# EAGLE library part HE721CXX30 (library HE721CXX30)
Reed Relay, HE700 series with SPDT-CO, internal freewheeling diode and electrostatic shield. This particular relay is in SPDT-CO configuration. See data sheet for more variants. You can simply adjust this library in case you need a different configuration.
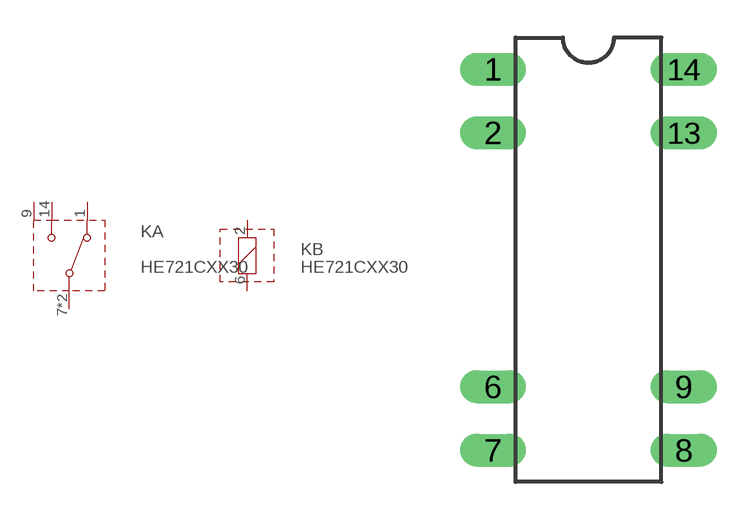
[diagram p0: symbol with the pads of DIL14; footprint DIL14]

Designator prefix K; gates A=CONTACT B=RELAIS

## HE721CXX30 (MFG: Littelfuse; MPN: HE721C0530)  [DIL14]
1  A:SWNC  pas
2  B:CP  pas
6  B:CM  pas
7  A:SWCOM  pas
8  A:SWCOM  pas
9  A:SHIELD  pas
14  A:SWNO  pas

## Footprint DIL14 (pad centres in mm)
Dual In Line Package
drill 0.813 long: 1 -3.81,7.62; 2 -3.81,5.08; 6 -3.81,-5.08; 7 -3.81,-7.62; 8 3.81,-7.62; 9 3.81,-5.08; 13 3.81,5.08; 14 3.81,7.62